# Altium schematic symbol library IRF9540NSTRLPBF.SchLib: 1 symbol
Pins are listed as number, name and electrical type; pins without a type are passive.

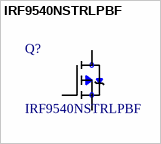
[diagram p0: symbol IRF9540NSTRLPBF]

## IRF9540NSTRLPBF
designator Q?
P-Channel 100V 23A _Tc_ 3.1W _Ta_, 110W _Tc_ Surface Mount D2PAK; MF: Infineon; MP: IRF9540NSTRLPBF; Price: None; SnapEDA_Link: https://www.snapeda.com/parts/IRF9540NSTRLPBF/Infineon%20Technologies/view-part/565416/?ref=snap; Availability: Unavailable; Package: D2PAK Infineon; Value: *
footprint *DPAK254P1524X483-4_3N
pins: 1 G, 3 S, 4 D